# Altium schematic symbol library SCH - POWER - LINEAR VREG - TI TPPM0111_DWP_20.SchLib: 1 symbol
Pins are listed as number, name and electrical type; pins without a type are passive.

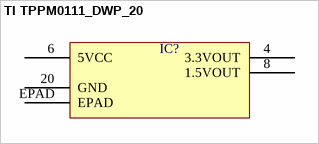
[diagram p0: symbol TI TPPM0111_DWP_20]

## TI TPPM0111_DWP_20
designator IC?  (value not drawn)
pins: 4 3.3VOUT, 6 5VCC, 8 1.5VOUT, 20 GND, EPAD